# Altium footprint library MotherBoard.PcbLib: 21 footprints (part 1 of 2)
Each footprint in its own frame and in the unit in brackets; x right, y up, seen from the top. Pads: shape width x height; smd on the part's side, far side on the other; paste and mask are expansions set on the pad; w line width, h text height; cw(c..) or ccw(c..) is an arc to the next point about the centre after c.
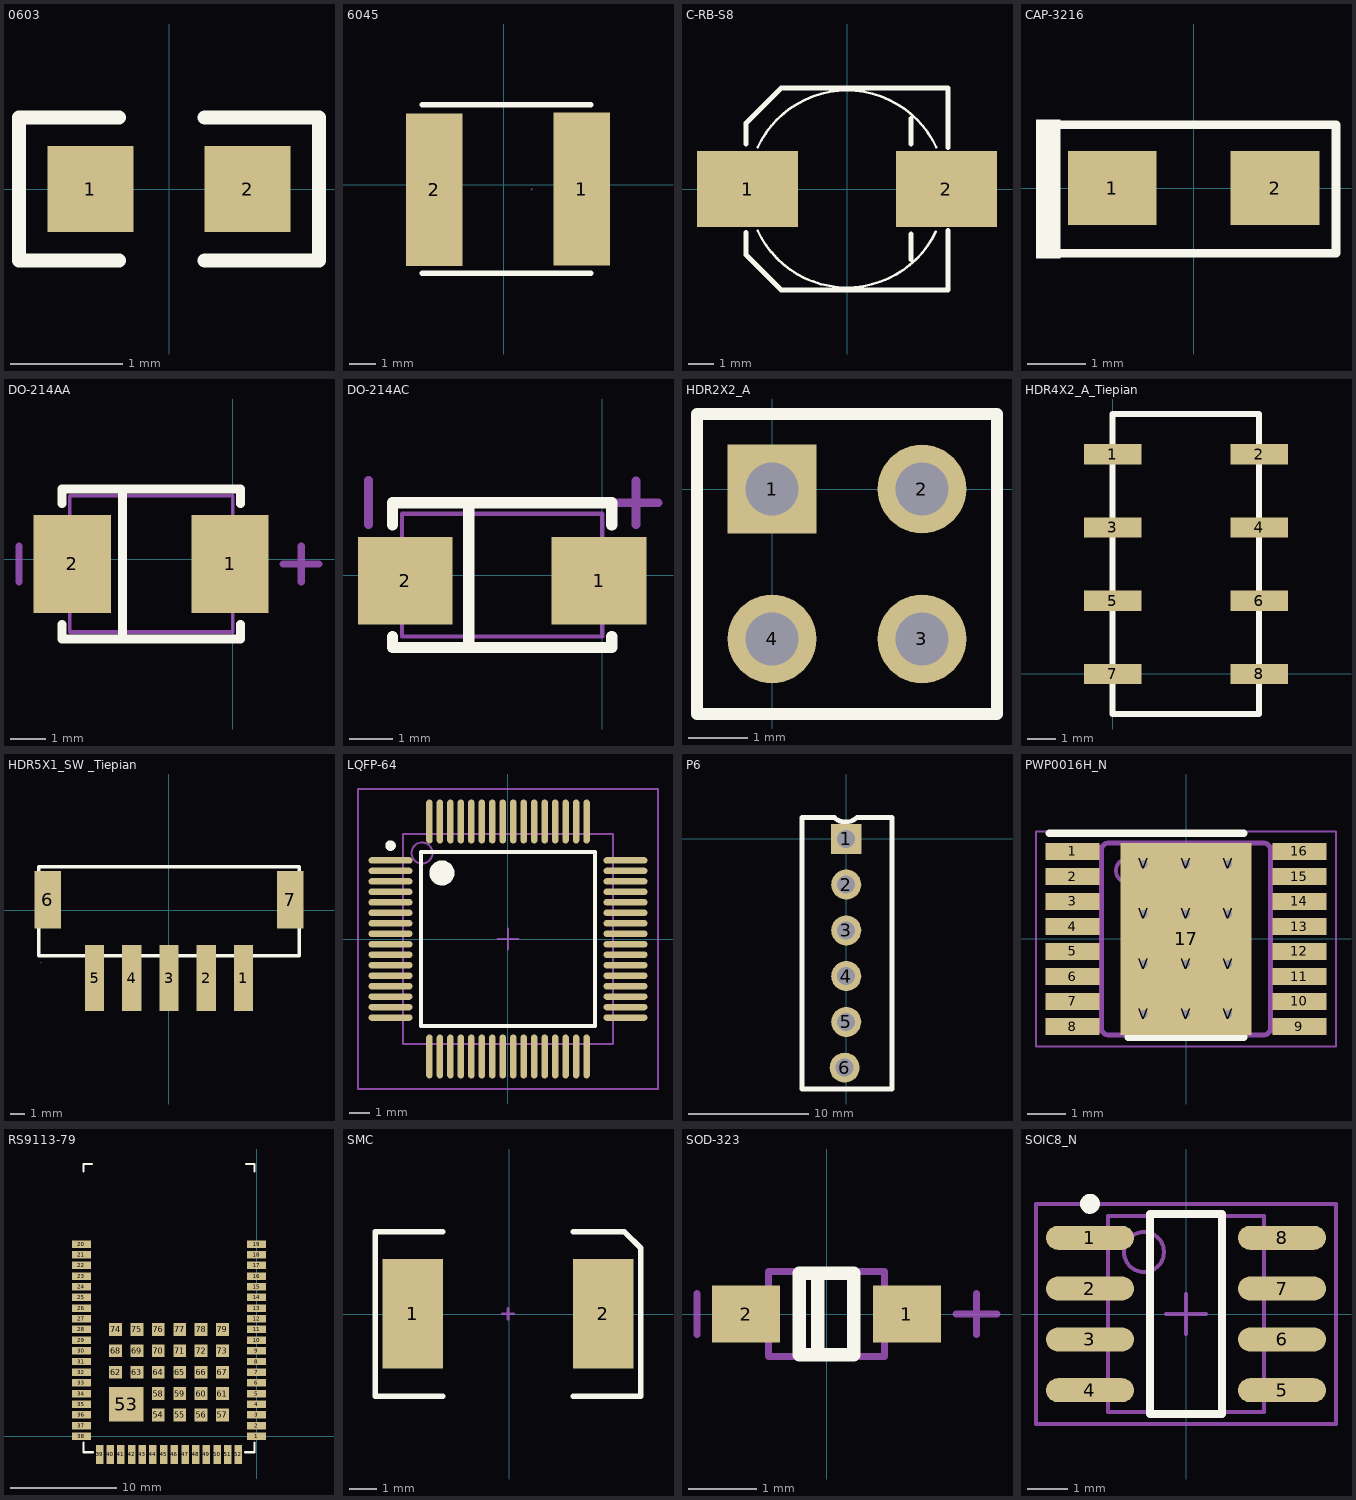
[diagram p0: the footprints below, top view; thin cyan lines are the x and y axes]

## 0603 [mil]
height 104.33
pads (2):
  rect 30x30 smd: 1(-27.5,0) 2(27.5,0)
Top Overlay:
  lines w5: -17.5,-25 -52.5,-25 -52.5,25 -17.5,25 ; 12.5,-25 52.5,-25 52.5,25 12.5,25
3D body: height 20.79, standoff 0.79, extent -32.5,-15 30.5,17

## 6045 [mm] "功率电感"
height 2.65
pads (2):
  rect 2.1x5.7 smd: 1(2.92,-0.159) 2(-2.592,-0.185)
Top Overlay:
  lines w0.203: -3.049,-3.309 3.25,-3.309 ; -3.049,2.99 3.25,2.99
Mechanical 15:
  lines w0.003: 1.038,-0.185 1.089,-0.134

## C-RB-S8 [mm] "贴片电解"
height 10.2
pads (2):
  rect 4x3 smd: 1(-3.937,0) 2(3.937,0)
Top Overlay:
  lines w0.1: -3.539,-1.643 ccw(c0,0) 3.516,-1.693 ; -3.539,1.643 cw(c0,0) 3.539,1.643
  lines w0.2: -4,-1.714 -4,-2.604 -2.604,-4 4,-4 4,-1.651 ; -4,1.778 -4,2.604 -2.604,4 4,4 4,1.651 ; 2.54,-2.794 2.54,-1.778 ; 2.54,1.778 2.54,2.794
3D body: height 10.9, standoff 0.9, extent -3.849,-3.872 3.88,3.872
3D body: height 0.6, standoff 0, extent -3.937,-3.937 3.937,3.937

## CAP-3216 [mil] "钽电容"
height 78.74
pads (2):
  rect 60x50 smd: 1(-55,0) 2(55,0)
Top Overlay:
  region: -90,46.39 -106.46,46.39 -106.46,-47.61 -90,-47.61
  lines w5.91: -94.83,-43.92 96.11,-43.92 96.11,42.69 -94.83,42.69

## DO-214AA [mil]
height 104.33
pads (2):
  rect 85x107.99 smd: 1(-2.99,-5) 2(-177.01,-5)
Top Overlay:
  lines w10: -188.43,-71.93 -188.43,-87.68 8.43,-87.68 8.43,-71.93 ; -188.43,61.93 -188.43,77.68 8.43,77.68 8.43,61.93 ; -121.5,-87.68 -121.5,77.68
Mechanical 13:
  lines w3.94: -179.96,-80 -0.04,-80 -0.04,70 -179.96,70 -179.96,-80
Mechanical 15:
  lines w8: -235.67,-24.68 -235.67,14.69 ; 55.67,-5 95.04,-5 ; 75.35,-24.68 75.35,14.69

## DO-214AC [mil]
height 104.33
pads (2):
  rect 85x78.74 smd: 1(-2.99,-5) 2(-177.01,-5)
Top Overlay:
  lines w10: -188.43,-55 -188.43,-65 8.43,-65 8.43,-55 ; -188.43,45 -188.43,65 8.43,65 8.43,45 ; -120,-65 -120,65
Mechanical 13:
  lines w3.94: -179.96,-55.12 -179.96,55.12 -0.04,55.12 -0.04,-55.12 -179.96,-55.12
Mechanical 15:
  lines w8: -210,45.63 -210,85 ; 10.63,65 50,65 ; 30.35,45.31 30.35,84.69

## HDR2X2_A [mm] "Connector; Header; 2 Position"
height 7.01
pads (4):
  rect 1.5x1.5 hole 0.9: 1(0,0)
  round 1.5 hole 0.9: 2(2.54,0) 3(2.54,-2.54) 4(0,-2.54)
Top Overlay:
  lines w0.2: -1.27,-3.81 3.81,-3.81 3.81,1.27 -1.27,1.27 -1.27,-3.81

## HDR4X2_A_Tiepian [mm] "贴片排插排母"
height 16
pads (8):
  rect 2x0.7 smd: 1(0,7.62) 2(5.08,7.62) 3(0,5.08) 4(5.08,5.08) 5(0,2.54) 6(5.08,2.54) 7(0,0) 8(5.08,0)
Top Overlay:
  lines w0.203: -0.004,-1.39 5.076,-1.39 5.076,9.016 -0.004,9.016 -0.004,-1.39

## HDR5X1_SW _Tiepian [mm] "贴片SW下载器"
height 1.6
pads (7):
  rect 1.3x4.5 smd: 1(5.1,-4.636) 2(2.56,-4.636) 3(0.02,-4.636) 4(-2.52,-4.636) 5(-5.06,-4.636)
  rect 1.8x3.9 smd: 6(-8.26,0.714) 7(8.299,0.714)
Top Overlay:
  lines w0.254: -8.869,-3.096 -8.869,2.964 -2.171,2.964 8.911,2.964 8.911,-3.096 -8.869,-3.096
Mechanical 15:
  lines w0.003: -8.752,-3.583 -8.701,-3.532

## LQFP-64 [mm] "LQFP64"
height 1.5
pads (64):
  oval 2.1x0.3 smd: 1(-5.6,3.75) 2(-5.6,3.25) 3(-5.6,2.75) 4(-5.6,2.25) 5(-5.6,1.75) 6(-5.6,1.25) 7(-5.6,0.75) 8(-5.6,0.25) 9(-5.6,-0.25) 10(-5.6,-0.75) 11(-5.6,-1.25) 12(-5.6,-1.75) 13(-5.6,-2.25) 14(-5.6,-2.75) 15(-5.6,-3.25) 16(-5.6,-3.75) 33(5.6,-3.75) 34(5.6,-3.25) 35(5.6,-2.75) 36(5.6,-2.25) 37(5.6,-1.75) 38(5.6,-1.25) 39(5.6,-0.75) 40(5.6,-0.25) 41(5.6,0.25) 42(5.6,0.75) 43(5.6,1.25) 44(5.6,1.75) 45(5.6,2.25) 46(5.6,2.75) 47(5.6,3.25) 48(5.6,3.75)
  oval 0.3x2.1 smd: 17(-3.75,-5.6) 18(-3.25,-5.6) 19(-2.75,-5.6) 20(-2.25,-5.6) 21(-1.75,-5.6) 22(-1.25,-5.6) 23(-0.75,-5.6) 24(-0.25,-5.6) 25(0.25,-5.6) 26(0.75,-5.6) 27(1.25,-5.6) 28(1.75,-5.6) 29(2.25,-5.6) 30(2.75,-5.6) 31(3.25,-5.6) 32(3.75,-5.6) 49(3.75,5.6) 50(3.25,5.6) 51(2.75,5.6) 52(2.25,5.6) 53(1.75,5.6) 54(1.25,5.6) 55(0.75,5.6) 56(0.25,5.6) 57(-0.25,5.6) 58(-0.75,5.6) 59(-1.25,5.6) 60(-1.75,5.6) 61(-2.25,5.6) 62(-2.75,5.6) 63(-3.25,5.6) 64(-3.75,5.6)
Top Overlay:
  circle w0.25: c-5.6,4.45 r0.125
  circle w0.6: c-3.15,3.15 r0.3
  lines w0.2: -4.15,-4.15 -4.15,4.15 4.15,4.15 4.15,-4.15 -4.15,-4.15
Mechanical 13:
  circle w0.1: c-4.1,4.1 r0.5
  lines w0.1: -5,-5 -5,5 5,5 5,-5 -5,-5
Mechanical 15:
  lines w0.1: -0.5,0 0.5,0 ; 0,-0.5 0,0.5 ; -7.15,-7.15 -7.15,7.15 7.15,7.15 7.15,-7.15 -7.15,-7.15
3D body: height 1.6, standoff 0, extent -5,-5 5,5

## P6 [mm]
pads (6):
  rect 2.5x2.5 hole 1.5: 1(0,0)
  round 2.5 hole 1.5: 2(0,-3.81) 3(0,-7.62) 4(0,-11.43) 5(0,-15.24) 6(-0.127,-19.05)
Top Overlay:
  lines w0.4: -0.972,1.778 -3.683,1.778 -3.683,-20.828 3.81,-20.828 3.81,1.778 0.933,1.778 ; -0.915,1.69 ccw(c-0.064,2.773) 0.889,1.778

## PWP0016H_N [mm]
pads (29):
  rect 1.4x0.45 smd paste+0 mask+0.051: 1(-2.95,2.275) 2(-2.95,1.625) 3(-2.95,0.975) 4(-2.95,0.325) 5(-2.95,-0.325) 6(-2.95,-0.975) 7(-2.95,-1.625) 8(-2.95,-2.275) 9(2.95,-2.275) 10(2.95,-1.625) 11(2.95,-0.975) 12(2.95,-0.325) 13(2.95,0.325) 14(2.95,0.975) 15(2.95,1.625) 16(2.95,2.275)
  rect 3.4x5 smd paste-2.487 mask-2.489: 17(0,0)
  round 0.5 / inner round 1.524 / far side round 0.5 hole 0.203 mask-0.241: V(-1.1,-1.95) V(-1.1,1.95) V(0,-1.95) V(0,-0.65) V(0,0.65) V(0,1.95) V(1.1,-1.95) V(1.1,1.95)
  round 0.5 / inner round 1.524 / far side round 0.5 hole 0.203 mask-0.152: V(-1.1,-0.65) V(-1.1,0.65) V(1.1,-0.65) V(1.1,0.65)
Top Overlay:
  lines w0.2: -3.55,2.75 1.5,2.75 ; -1.5,-2.55 1.5,-2.55
Top Paste:
  region: -1.229,-1.118 -1.23,-1.109 -1.23,1.109 -1.229,1.118 -1.226,1.126 -1.222,1.134 -1.216,1.141 -1.209,1.147 -1.201,1.151 -1.193,1.154 -1.184,1.155 1.184,1.155 1.193,1.154 1.201,1.151 1.209,1.147 1.216,1.141 1.222,1.134 1.226,1.126 1.229,1.118 1.23,1.109 1.23,-1.109 1.229,-1.118 1.226,-1.126 1.222,-1.134 1.216,-1.141 1.209,-1.147 1.201,-1.151 1.193,-1.154 1.184,-1.155 -1.184,-1.155 -1.193,-1.154 -1.201,-1.151 -1.209,-1.147 -1.216,-1.141 -1.222,-1.134 -1.226,-1.126
Top Solder:
  region: -1.229,-1.118 -1.23,-1.109 -1.23,1.109 -1.229,1.118 -1.226,1.126 -1.222,1.134 -1.216,1.141 -1.209,1.147 -1.201,1.151 -1.193,1.154 -1.184,1.155 1.184,1.155 1.193,1.154 1.201,1.151 1.209,1.147 1.216,1.141 1.222,1.134 1.226,1.126 1.229,1.118 1.23,1.109 1.23,-1.109 1.229,-1.118 1.226,-1.126 1.222,-1.134 1.216,-1.141 1.209,-1.147 1.201,-1.151 1.193,-1.154 1.184,-1.155 -1.184,-1.155 -1.193,-1.154 -1.201,-1.151 -1.209,-1.147 -1.216,-1.141 -1.222,-1.134 -1.226,-1.126
Mechanical 13:
  drawing of 201 lines, arcs and shapes, not listed
Mechanical 15:
  lines w0.05: -3.9,-2.8 -3.9,2.8 3.9,2.8 3.9,-2.8 -3.9,-2.8
  lines w0.1: -0.5,0 0.5,0 ; 0,-0.5 0,0.5
3D body: height 0.25, standoff 0, extent 0,0 0.254,0.254

## RS9113-79 [mm]
pads (79):
  rect 1.8x0.7 smd: 1(0,0) 2(0,1) 3(0,2) 4(0,3) 5(0,4) 6(0,5) 7(0,6) 8(0,7) 9(0,8) 10(0,9) 11(0,10) 12(0,11) 13(0,12) 14(0,13) 15(0,14) 16(0,15) 17(0,16) 18(0,17) 19(0,18) 20(-16.4,18) 21(-16.4,17) 22(-16.4,16) 23(-16.4,15) 24(-16.4,14) 25(-16.4,13) 26(-16.4,12) 27(-16.4,11) 28(-16.4,10) 29(-16.4,9) 30(-16.4,8) 31(-16.4,7) 32(-16.4,6) 33(-16.4,5) 34(-16.4,4) 35(-16.4,3) 36(-16.4,2) 37(-16.4,1) 38(-16.4,0)
  rect 0.7x1.8 smd: 39(-14.7,-1.7) 40(-13.7,-1.7) 41(-12.7,-1.7) 42(-11.7,-1.7) 43(-10.7,-1.7) 44(-9.7,-1.7) 45(-8.7,-1.7) 46(-7.7,-1.7) 47(-6.7,-1.7) 48(-5.7,-1.7) 49(-4.7,-1.7) 50(-3.7,-1.7) 51(-2.7,-1.7) 52(-1.7,-1.7)
  rect 3.2x3.2 smd: 53(-12.2,3)
  rect 1.2x1.2 smd: 54(-9.2,2) 55(-7.2,2) 56(-5.2,2) 57(-3.2,2) 58(-9.2,4) 59(-7.2,4) 60(-5.2,4) 61(-3.2,4) 62(-13.2,6) 63(-11.2,6) 64(-9.2,6) 65(-7.2,6) 66(-5.2,6) 67(-3.2,6) 68(-13.2,8) 69(-11.2,8) 70(-9.2,8) 71(-7.2,8) 72(-5.2,8) 73(-3.2,8) 74(-13.2,10) 75(-11.2,10) 76(-9.2,10) 77(-7.2,10) 78(-5.2,10) 79(-3.2,10)
Top Overlay:
  lines w0.2: -16.2,-0.611 -16.2,-1.5 -15.311,-1.5 ; -16.2,24.789 -16.2,25.5 -15.438,25.5 ; -1.087,-1.5 -0.2,-1.5 -0.2,-0.611 ; -0.96,25.5 -0.2,25.5 -0.2,24.789

## SMC [mm] "TVS管"
pads (2):
  rect 2.2x4 smd: 1(-3.524,0.005) 2(3.426,0.005)
Top Overlay:
  lines w0.2: -2.424,-3 -4.9,-3 -4.9,3 -2.424,3 ; 2.326,-3 4.8,-3 4.8,2.4 4.2,3 3.7,3 2.326,3
Mechanical 1:
  lines w0.1: -0.249,0.005 0.151,0.005 ; -0.049,-0.195 -0.049,0.205

## SOD-323 [mm]
height 2.65
pads (2):
  rect 1x0.83 smd: 1(1.18,0) 2(-1.18,0)
Top Overlay:
  lines w0.2: -0.13,-0.6 -0.13,0.6 ; -0.4,-0.6 0.4,-0.6 0.4,0.6 -0.4,0.6 -0.4,-0.6
Mechanical 13:
  lines w0.1: -0.85,-0.625 0.85,-0.625 0.85,0.625 -0.85,0.625 -0.85,-0.625
Mechanical 15:
  lines w0.1: -1.9,-0.3 -1.9,0.3 ; 1.9,0 2.5,0 ; 2.2,-0.3 2.2,0.3
3D body: height 1.1, standoff 0, extent -1.35,-0.625 1.35,0.625

## SOIC8_N [mm] "8-Pin Small Outline Integrated Circuit Package (SOIC8), IPC Medium Density"
height 1.75
pads (8):
  oval 2.2x0.6 smd: 1(-2.4,1.905) 2(-2.4,0.635) 3(-2.4,-0.635) 4(-2.4,-1.905) 5(2.4,-1.905) 6(2.4,-0.635) 7(2.4,0.635) 8(2.4,1.905)
Top Overlay:
  circle w0.25: c-2.4,2.755 r0.125
  lines w0.2: -0.9,-2.5 -0.9,2.5 0.9,2.5 0.9,-2.5 -0.9,-2.5
Mechanical 13:
  circle w0.1: c-1.05,1.55 r0.5
  lines w0.1: -1.95,-2.45 -1.95,2.45 1.95,2.45 1.95,-2.45 -1.95,-2.45
Mechanical 15:
  lines w0.1: -0.5,0 0.5,0 ; 0,-0.5 0,0.5 ; -3.75,-2.75 -3.75,2.75 3.75,2.75 3.75,-2.75 -3.75,-2.75
3D body: height 1.75, standoff 0, extent -1.95,-2.45 1.95,2.45